# EAGLE library part MC100EP11DG (library ON_Semiconductor_By_element14_Batch_1)
3.3V / 5V ECL 1:2 Differential Fanout Buffer
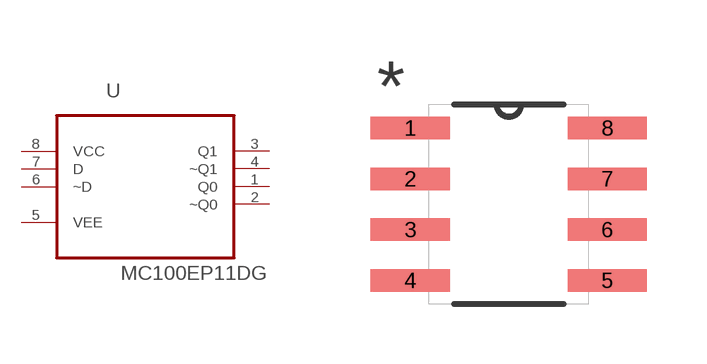
[diagram p98: symbol with the pads of SOIC127P600X175-8N; footprint SOIC127P600X175-8N]

Designator prefix U

## MC100EP11DG (MPN: MC100EP11DG; OC_FARNELL: 1468709; OC_NEWARK: 45J0937; PACKAGE: SOIC-8; SUPPLIER: On Semi)  [SOIC127P600X175-8N]
1  Q0  out
2  ~Q0  out
3  Q1  out
4  ~Q1  out
5  VEE  pwr
6  ~D  in
7  D  in
8  VCC  pwr

## Footprint SOIC127P600X175-8N (pad centres in mm)
smd 1.981 x 0.559: 1 -2.464,1.905; 2 -2.464,0.635; 3 -2.464,-0.635; 4 -2.464,-1.905; 5 2.464,-1.905; 6 2.464,-0.635; 7 2.464,0.635; 8 2.464,1.905